# Altium footprint library Q3E.PcbLib: 1 footprints
Each footprint in its own frame and in the unit in brackets; x right, y up, seen from the top. Pads: shape width x height; smd on the part's side, far side on the other; paste and mask are expansions set on the pad; w line width, h text height; cw(c..) or ccw(c..) is an arc to the next point about the centre after c.
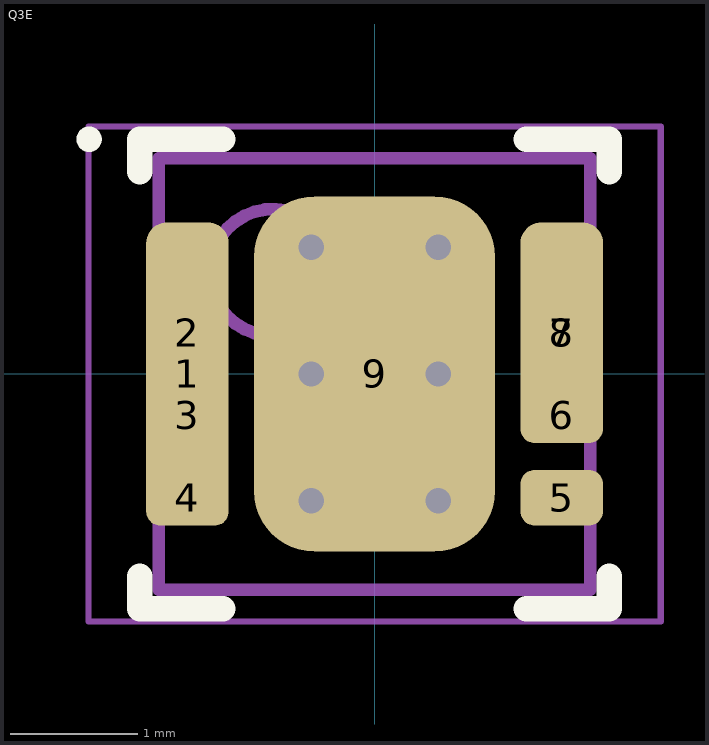
[diagram p0: the footprint, top view; thin cyan lines are the x and y axes]

## Q3E [mm] "SON, 8-Leads, Body 3.30x3.30mm, Pitch 0.65mm, Thermal Pad 2.70x1.79mm, IPC Medium Density"
height 1.05
pads (9):
  rrect50% 0.65x2.39 smd paste-10 mask+0.06: 1(-1.475,0)
  rrect50% 0.65x0.44 smd paste-10 mask+0.06: 2(-1.475,0.325) 3(-1.475,-0.325) 4(-1.475,-0.975) 5(1.475,-0.975) 6(1.475,-0.325) 7(1.475,0.325)
  rrect50% 0.65x1.74 smd paste-10 mask+0.06: 8(1.475,0.325)
  rrect50% 1.9x2.8 smd paste-10 mask+0.06: 9(0,0)
via 0.5,-1 diameter 0.5 hole 0.2
via -0.5,-1 diameter 0.5 hole 0.2
via 0.5,0 diameter 0.5 hole 0.2
via -0.5,0 diameter 0.5 hole 0.2
via 0.5,1 diameter 0.5 hole 0.2
via -0.5,1 diameter 0.5 hole 0.2
Top Overlay:
  circle w0.1: c-2.25,1.85 r0.05
  lines w0.2: -1.85,-1.595 -1.85,-1.85 -1.195,-1.85 ; -1.85,1.595 -1.85,1.85 -1.195,1.85 ; 1.195,-1.85 1.85,-1.85 1.85,-1.595 ; 1.195,1.85 1.85,1.85 1.85,1.595
Top Paste:
  region: 0.833,-0.35 0.833,0.35 0.167,0.35 0.167,-0.35
  rectangle: 1.202,0.788 1.752,1.128
  rectangle: 1.2,-1.15 1.75,-0.81
  rectangle: 1.2,-0.5 1.75,-0.16
  rectangle: -1.75,-1.15 -1.2,-0.81
  rectangle: -1.75,-0.5 -1.2,-0.16
  region: 1.75,0.49 1.2,0.49 1.2,0.15 1.75,0.15
  rectangle: -1.75,0.15 -1.2,1.14
  region: -0.167,-0.35 -0.167,0.35 -0.833,0.35 -0.833,-0.35
  region: -0.167,0.55 -0.167,1.25 -0.833,1.25 -0.833,0.55
  region: 0.833,0.55 0.833,1.25 0.167,1.25 0.167,0.55
  region: 0.167,-0.55 0.167,-1.25 0.833,-1.25 0.833,-0.55
  region: -0.833,-0.55 -0.833,-1.25 -0.167,-1.25 -0.167,-0.55
Top Assembly:
  circle w0.1: c-0.8,0.8 r0.5
  lines w0.1: -1.7,-1.7 1.7,-1.7 1.7,1.7 -1.7,1.7 -1.7,-1.7
Top Courtyard:
  lines w0.05: -2.255,-1.95 2.255,-1.95 2.255,1.95 -2.255,1.95 -2.255,-1.95
  lines w0.1: -0.5,0 0.5,0 ; 0,-0.5 0,0.5
3D body "Q3E.step": height 1.05, standoff 0, extent -1.701,-1.7 1.701,1.7